# EAGLE library part IC-LAN-WIPORT (library mylib)
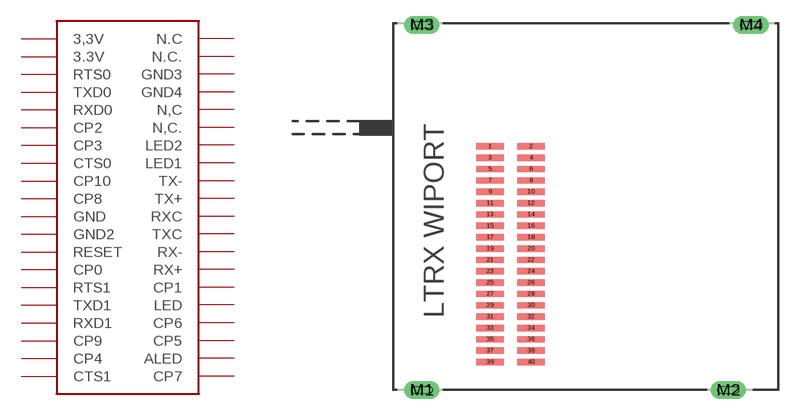
[diagram p17: symbol with the pads of IC-WIPORT; footprint IC-WIPORT]

Designator prefix IC

## IC-LAN-WIPORT  [IC-WIPORT]
1  3,3V
2  3.3V
3  RTS0
4  TXD0
5  RXD0
6  CP2
7  CP3
8  CTS0
9  CP10
10  CP8
11  GND
12  GND2
13  RESET
14  CP0
15  RTS1
16  TXD1
17  RXD1
18  CP9
19  CP4
20  CTS1
21  N,C
22  N,C.
23  GND3
24  GND4
25  N.C
26  N.C.
27  LED2
28  LED1
29  TX-
30  TX+
31  RXC
32  TXC
33  RX-
34  RX+
35  CP1
36  LED
37  CP6
38  CP5
39  ALED
40  CP7

## Footprint IC-WIPORT (pad centres in mm)
LANTRONIX WIPORT Source: ASSY.pdf
smd 2.413 x 0.559: 1 -8.373,5.222; 2 -4.766,5.222; 3 -8.373,4.221; 4 -4.766,4.221; 5 -8.373,3.221; 6 -4.766,3.221; 7 -8.373,2.22; 8 -4.766,2.22; 9 -8.373,1.219; 10 -4.766,1.219; 11 -8.373,0.218; 12 -4.766,0.218; 13 -8.373,-0.782; 14 -4.766,-0.782; 15 -8.373,-1.783; 16 -4.766,-1.783; 17 -8.373,-2.784; 18 -4.766,-2.784; 19 -8.373,-3.785; 20 -4.766,-3.785; 21 -8.373,-4.785; 22 -4.766,-4.785; 23 -8.373,-5.786; 24 -4.766,-5.786; 25 -8.373,-6.787; 26 -4.766,-6.787; 27 -8.373,-7.788; 28 -4.766,-7.788; 29 -8.373,-8.788; 30 -4.766,-8.788; 31 -8.373,-9.789; 32 -4.766,-9.789; 33 -8.373,-10.79; 34 -4.766,-10.79; 35 -8.373,-11.791; 36 -4.766,-11.791; 37 -8.373,-12.791; 38 -4.766,-12.791; 39 -8.373,-13.792; 40 -4.766,-13.792
drill 0.66 pad 1.575 long: M1 -14.402,-16.256; M2 12.598,-16.256; M3 -14.402,15.951; M4 14.605,15.951